# EAGLE library part D__7SEGMENT_CC (library ..SMD)
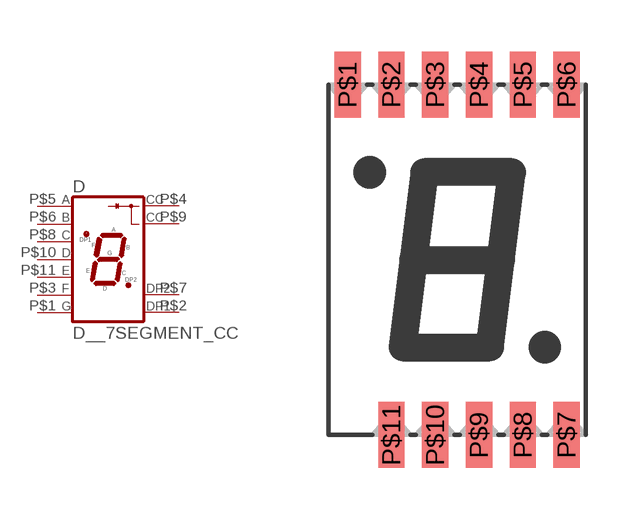
[diagram p0: symbol with the pads of 7SEG_CC; footprint 7SEG_CC]

Designator prefix D

## D__7SEGMENT_CC  [7SEG_CC]
P$1  G  pas
P$2  DP1  pas
P$3  F  pas
P$4  CC  pas
P$5  A  pas
P$6  B  pas
P$7  DP2  pas
P$8  C  pas
P$9  CC  pas
P$10  D  pas
P$11  E  pas

## Footprint 7SEG_CC (pad centres in mm)
smd 0.762 x 1.905: P$1 -3.175,5.08; P$2 -1.905,5.08; P$3 -0.635,5.08; P$4 0.635,5.08; P$5 1.905,5.08; P$6 3.175,5.08; P$7 3.175,-5.08; P$8 1.905,-5.08; P$9 0.635,-5.08; P$10 -0.635,-5.08; P$11 -1.905,-5.08